# EAGLE library part 2013978-1 (library 2013978-1)
HDMI Type C (Mini) Connector
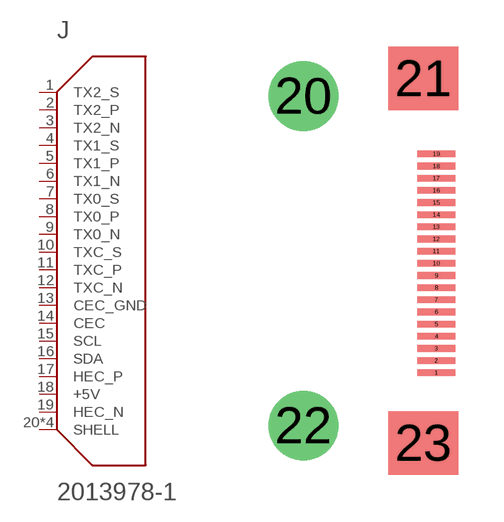
[diagram p0: symbol with the pads of DIP-SMT; footprint DIP-SMT]

Designator prefix J

## 2013978-1  [DIP-SMT]
1  TX2_S
2  TX2_P
3  TX2_N
4  TX1_S
5  TX1_P
6  TX1_N
7  TX0_S
8  TX0_P
9  TX0_N
10  TXC_S
11  TXC_P
12  TXC_N
13  CEC_GND
14  CEC
15  SCL
16  SDA
17  HEC_P
18  +5V  pwr
19  HEC_N
20  SHELL
21  SHELL
22  SHELL
23  SHELL

## Footprint DIP-SMT (pad centres in mm)
smd 1.25 x 0.22: 1 4.38,-3.685; 2 4.38,-3.285; 3 4.38,-2.885; 4 4.38,-2.485; 5 4.38,-2.085; 6 4.38,-1.685; 7 4.38,-1.285; 8 4.38,-0.885; 9 4.38,-0.485; 10 4.38,-0.085; 11 4.38,0.315; 12 4.38,0.715; 13 4.38,1.115; 14 4.38,1.515; 15 4.38,1.915; 16 4.38,2.315; 17 4.38,2.715; 18 4.38,3.115; 19 4.38,3.515
drill 1.3 pad 2.3: 20 0,5.425; 22 0,-5.425
smd 2.3 x 2.1: 21 3.95,6; 23 3.95,-6